# EAGLE library part TFT-RESISTIV (library bauteile-can-display)
TFT-Resistiv
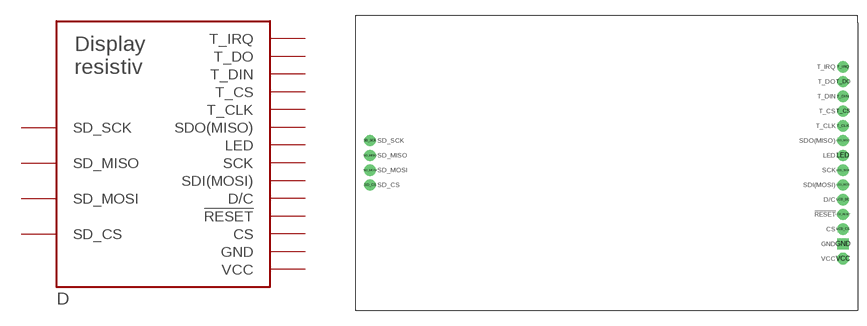
[diagram p1: symbol with the pads of TFT-RESISTIV; footprint TFT-RESISTIV]

Designator prefix D

## TFT-RESISTIV  [TFT-RESISTIV]
GND  GND  pwr
LCD_CS  CS
LCD_DC  D/C
LCD_MISO  SDO(MISO)
LCD_MOSI  SDI(MOSI)
LCD_RESET  !RESET!
LCD_SCK  SCK
LED  LED  pwr
SD_CS  SD_CS
SD_MISO  SD_MISO
SD_MOSI  SD_MOSI
SD_SCK  SD_SCK
T_CLK  T_CLK
T_CS  T_CS
T_DIN  T_DIN
T_DO  T_DO
T_IRQ  T_IRQ
VCC  VCC  pwr

## Footprint TFT-RESISTIV (pad centres in mm)
drill 1 pad 1.93 square: GND 0,-13.97
drill 1 pad 1.93: LCD_CS 0,-11.43; LCD_DC 0,-6.35; LCD_MISO 0,3.81; LCD_MOSI 0,-3.81; LCD_RESET 0,-8.89; LCD_SCK 0,-1.27; LED 0,1.27; SD_CS -81.28,-3.81; SD_MISO -81.28,1.27; SD_MOSI -81.28,-1.27; SD_SCK -81.28,3.81; T_CLK 0,6.35; T_CS 0,8.89; T_DIN 0,11.43; T_DO 0,13.97; T_IRQ 0,16.51
drill 1 pad 1.93 octagon: VCC 0,-16.51